# Altium integrated library lib_bosch.IntLib: 1 symbol
Pins are listed as number, name and electrical type; pins without a type are passive.

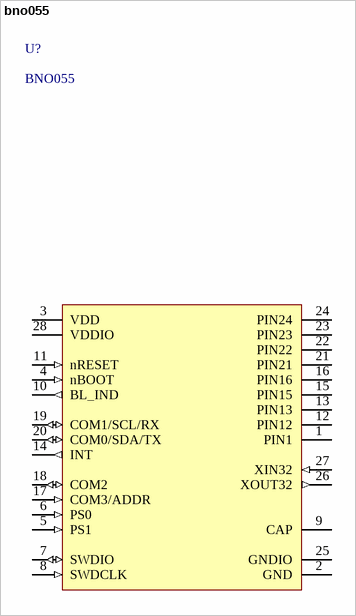
[diagram p0: symbol bno055]

## bno055
designator U?, comment BNO055
Intelligent 9-axis absolute orientation sensor; ComponentLink1Description: Datasheet; ComponentLink1URL: https://www.bosch-sensortec.com/media/boschsensortec/downloads/datasheets/bst-bno055-ds000.pdf; Supplier 1: Digi-Key; Supplier Part Number 1: 828-1058-1-ND; Supplier 2: Mouser; Supplier Part Number 2: 262-BNO055
footprint PQFN50P520X380X118-28N_BNO055 (PQFN, 28-Leads, Body 5.20x3.80mm, Pitch 0.50mm, IPC Medium Density)
pins: 1 PIN1, 2 GND (power), 3 VDD (power), 4 nBOOT (in), 5 PS1 (in), 6 PS0 (in), 7 SWDIO (io), 8 SWDCLK (in), 9 CAP, 10 BL_IND (out), 11 nRESET (in), 12 PIN12, 13 PIN13, 14 INT (out), 15 PIN15, 16 PIN16, 17 COM3/ADDR (in), 18 COM2 (io), 19 COM1/SCL/RX (io), 20 COM0/SDA/TX (io), 21 PIN21, 22 PIN22, 23 PIN23, 24 PIN24, 25 GNDIO (power), 26 XOUT32 (out), 27 XIN32 (in), 28 VDDIO (power)